# EAGLE library part RX62N (library takeyama)
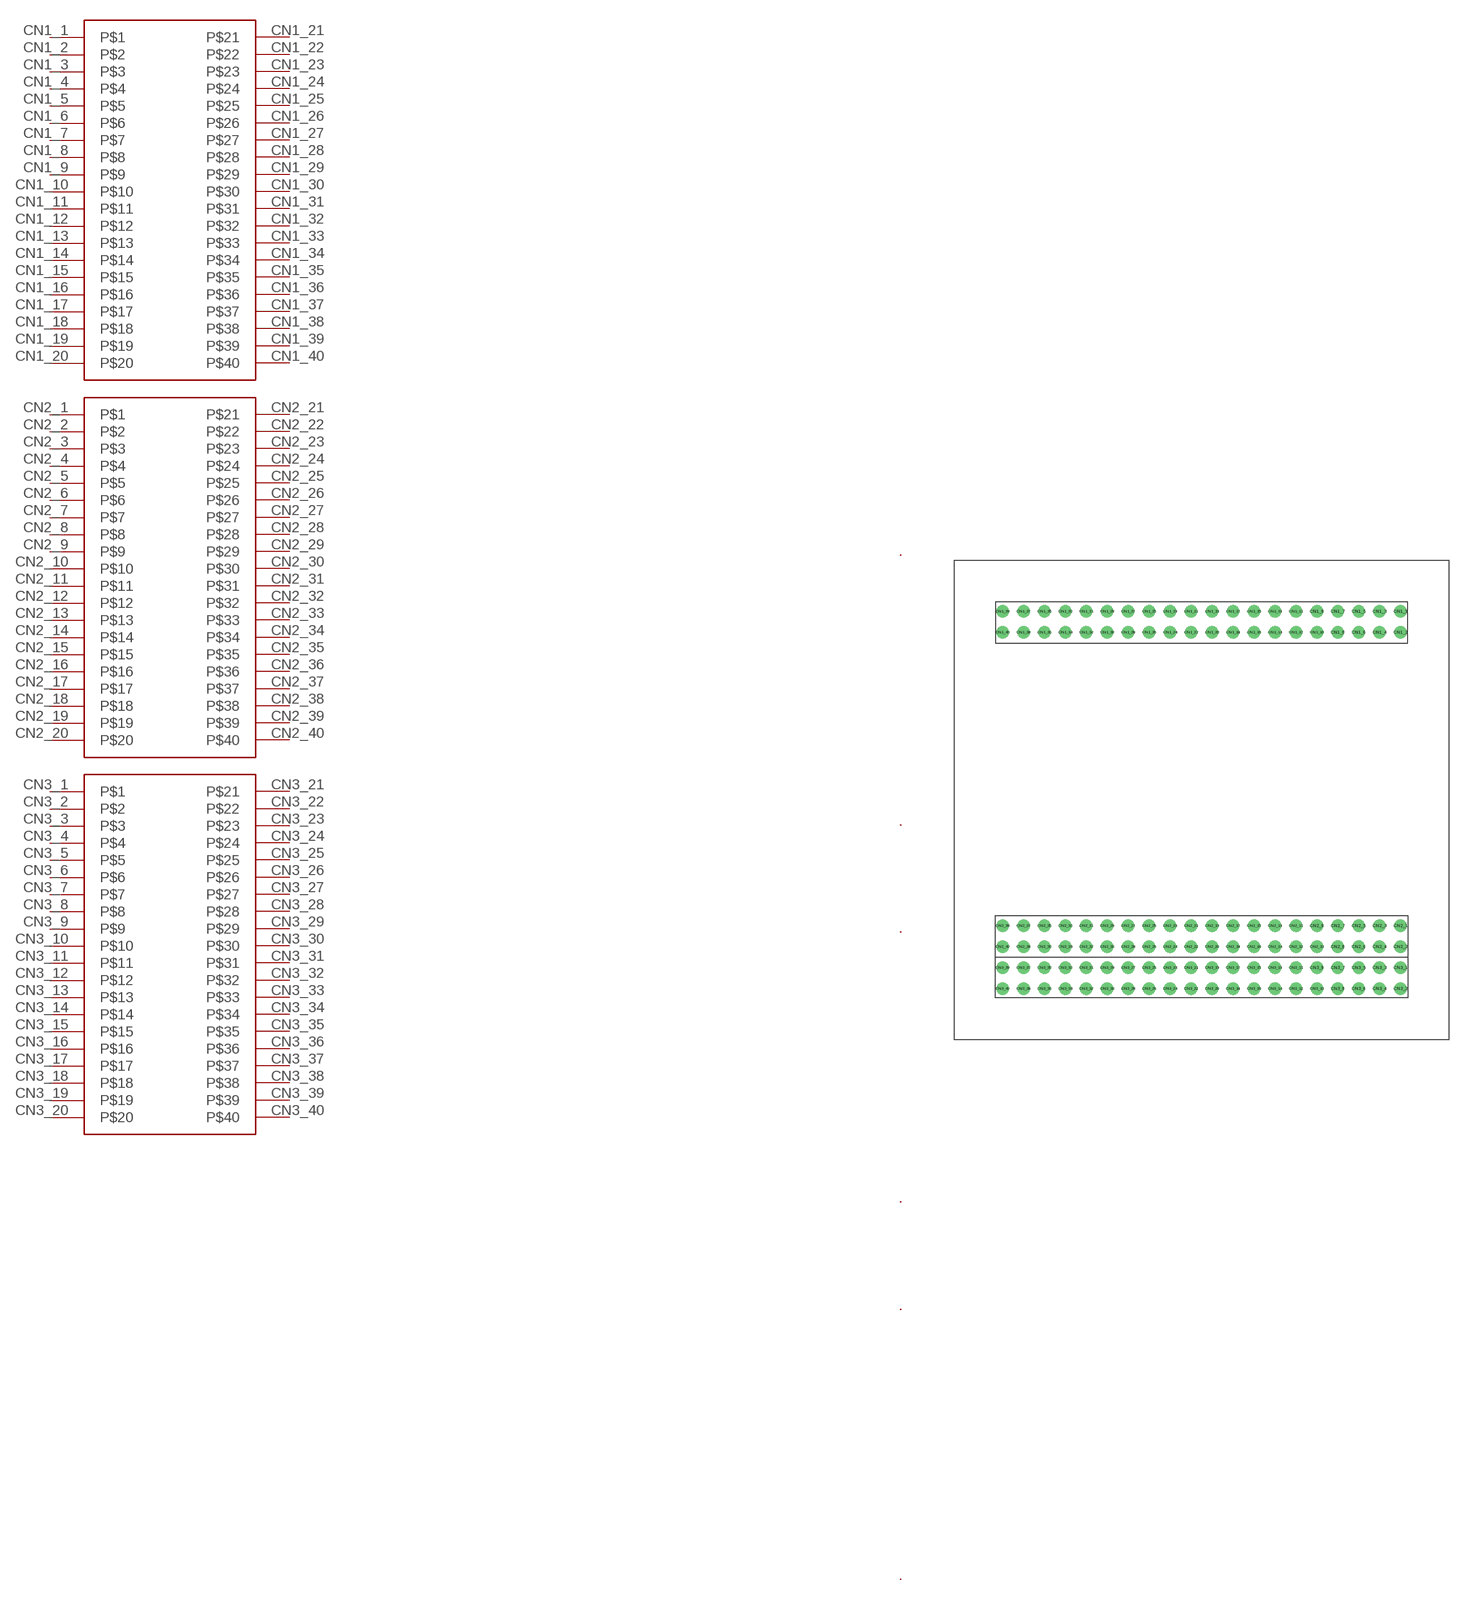
[diagram p4: symbol with the pads of RX62N; footprint RX62N]

Designator prefix -; gates CH1=RX62N CH2=RX62N CH3=RX62N

## RX62N  [RX62N]
CN1_1  CH1:P$1
CN1_2  CH1:P$2
CN1_3  CH1:P$3
CN1_4  CH1:P$4
CN1_5  CH1:P$5
CN1_6  CH1:P$6
CN1_7  CH1:P$7
CN1_8  CH1:P$8
CN1_9  CH1:P$9
CN1_10  CH1:P$10
CN1_11  CH1:P$11
CN1_12  CH1:P$12
CN1_13  CH1:P$13
CN1_14  CH1:P$14
CN1_15  CH1:P$15
CN1_16  CH1:P$16
CN1_17  CH1:P$17
CN1_18  CH1:P$18
CN1_19  CH1:P$19
CN1_20  CH1:P$20
CN1_21  CH1:P$21
CN1_22  CH1:P$22
CN1_23  CH1:P$23
CN1_24  CH1:P$24
CN1_25  CH1:P$25
CN1_26  CH1:P$26
CN1_27  CH1:P$27
CN1_28  CH1:P$28
CN1_29  CH1:P$29
CN1_30  CH1:P$30
CN1_31  CH1:P$31
CN1_32  CH1:P$32
CN1_33  CH1:P$33
CN1_34  CH1:P$34
CN1_35  CH1:P$35
CN1_36  CH1:P$36
CN1_37  CH1:P$37
CN1_38  CH1:P$38
CN1_39  CH1:P$39
CN1_40  CH1:P$40
CN2_1  CH2:P$1
CN2_2  CH2:P$2
CN2_3  CH2:P$3
CN2_4  CH2:P$4
CN2_5  CH2:P$5
CN2_6  CH2:P$6
CN2_7  CH2:P$7
CN2_8  CH2:P$8
CN2_9  CH2:P$9
CN2_10  CH2:P$10
CN2_11  CH2:P$11
CN2_12  CH2:P$12
CN2_13  CH2:P$13
CN2_14  CH2:P$14
CN2_15  CH2:P$15
CN2_16  CH2:P$16
CN2_17  CH2:P$17
CN2_18  CH2:P$18
CN2_19  CH2:P$19
CN2_20  CH2:P$20
CN2_21  CH2:P$21
CN2_22  CH2:P$22
CN2_23  CH2:P$23
CN2_24  CH2:P$24
CN2_25  CH2:P$25
CN2_26  CH2:P$26
CN2_27  CH2:P$27
CN2_28  CH2:P$28
CN2_29  CH2:P$29
CN2_30  CH2:P$30
CN2_31  CH2:P$31
CN2_32  CH2:P$32
CN2_33  CH2:P$33
CN2_34  CH2:P$34
CN2_35  CH2:P$35
CN2_36  CH2:P$36
CN2_37  CH2:P$37
CN2_38  CH2:P$38
CN2_39  CH2:P$39
CN2_40  CH2:P$40
CN3_1  CH3:P$1
CN3_2  CH3:P$2
CN3_3  CH3:P$3
CN3_4  CH3:P$4
CN3_5  CH3:P$5
CN3_6  CH3:P$6
CN3_7  CH3:P$7
CN3_8  CH3:P$8
CN3_9  CH3:P$9
CN3_10  CH3:P$10
CN3_11  CH3:P$11
CN3_12  CH3:P$12
CN3_13  CH3:P$13
CN3_14  CH3:P$14
CN3_15  CH3:P$15
CN3_16  CH3:P$16
CN3_17  CH3:P$17
CN3_18  CH3:P$18
CN3_19  CH3:P$19
CN3_20  CH3:P$20
CN3_21  CH3:P$21
CN3_22  CH3:P$22
CN3_23  CH3:P$23
CN3_24  CH3:P$24
CN3_25  CH3:P$25
CN3_26  CH3:P$26
CN3_27  CH3:P$27
CN3_28  CH3:P$28
CN3_29  CH3:P$29
CN3_30  CH3:P$30
CN3_31  CH3:P$31
CN3_32  CH3:P$32
CN3_33  CH3:P$33
CN3_34  CH3:P$34
CN3_35  CH3:P$35
CN3_36  CH3:P$36
CN3_37  CH3:P$37
CN3_38  CH3:P$38
CN3_39  CH3:P$39
CN3_40  CH3:P$40

## Footprint RX62N (pad centres in mm)
drill 1: CN1_1 24.13,22.86; CN1_2 24.13,20.32; CN1_3 21.59,22.86; CN1_4 21.59,20.32; CN1_5 19.05,22.86; CN1_6 19.05,20.32; CN1_7 16.51,22.86; CN1_8 16.51,20.32; CN1_9 13.97,22.86; CN1_10 13.97,20.32; CN1_11 11.43,22.86; CN1_12 11.43,20.32; CN1_13 8.89,22.86; CN1_14 8.89,20.32; CN1_15 6.35,22.86; CN1_16 6.35,20.32; CN1_17 3.81,22.86; CN1_18 3.81,20.32; CN1_19 1.27,22.86; CN1_20 1.27,20.32; CN1_21 -1.27,22.86; CN1_22 -1.27,20.32; CN1_23 -3.81,22.86; CN1_24 -3.81,20.32; CN1_25 -6.35,22.86; CN1_26 -6.35,20.32; CN1_27 -8.89,22.86; CN1_28 -8.89,20.32; CN1_29 -11.43,22.86; CN1_30 -11.43,20.32; CN1_31 -13.97,22.86; CN1_32 -13.97,20.32; CN1_33 -16.51,22.86; CN1_34 -16.51,20.32; CN1_35 -19.05,22.86; CN1_36 -19.05,20.32; CN1_37 -21.59,22.86; CN1_38 -21.59,20.32; CN1_39 -24.13,22.86; CN1_40 -24.13,20.32; CN2_1 24.13,-15.24; CN2_2 24.13,-17.78; CN2_3 21.59,-15.24; CN2_4 21.59,-17.78; CN2_5 19.05,-15.24; CN2_6 19.05,-17.78; CN2_7 16.51,-15.24; CN2_8 16.51,-17.78; CN2_9 13.97,-15.24; CN2_10 13.97,-17.78; CN2_11 11.43,-15.24; CN2_12 11.43,-17.78; CN2_13 8.89,-15.24; CN2_14 8.89,-17.78; CN2_15 6.35,-15.24; CN2_16 6.35,-17.78; CN2_17 3.81,-15.24; CN2_18 3.81,-17.78; CN2_19 1.27,-15.24; CN2_20 1.27,-17.78; CN2_21 -1.27,-15.24; CN2_22 -1.27,-17.78; CN2_23 -3.81,-15.24; CN2_24 -3.81,-17.78; CN2_25 -6.35,-15.24; CN2_26 -6.35,-17.78; CN2_27 -8.89,-15.24; CN2_28 -8.89,-17.78; CN2_29 -11.43,-15.24; CN2_30 -11.43,-17.78; CN2_31 -13.97,-15.24; CN2_32 -13.97,-17.78; CN2_33 -16.51,-15.24; CN2_34 -16.51,-17.78; CN2_35 -19.05,-15.24; CN2_36 -19.05,-17.78; CN2_37 -21.59,-15.24; CN2_38 -21.59,-17.78; CN2_39 -24.13,-15.24; CN2_40 -24.13,-17.78; CN3_1 24.13,-20.32; CN3_2 24.13,-22.86; CN3_3 21.59,-20.32; CN3_4 21.59,-22.86; CN3_5 19.05,-20.32; CN3_6 19.05,-22.86; CN3_7 16.51,-20.32; CN3_8 16.51,-22.86; CN3_9 13.97,-20.32; CN3_10 13.97,-22.86; CN3_11 11.43,-20.32; CN3_12 11.43,-22.86; CN3_13 8.89,-20.32; CN3_14 8.89,-22.86; CN3_15 6.35,-20.32; CN3_16 6.35,-22.86; CN3_17 3.81,-20.32; CN3_18 3.81,-22.86; CN3_19 1.27,-20.32; CN3_20 1.27,-22.86; CN3_21 -1.27,-20.32; CN3_22 -1.27,-22.86; CN3_23 -3.81,-20.32; CN3_24 -3.81,-22.86; CN3_25 -6.35,-20.32; CN3_26 -6.35,-22.86; CN3_27 -8.89,-20.32; CN3_28 -8.89,-22.86; CN3_29 -11.43,-20.32; CN3_30 -11.43,-22.86; CN3_31 -13.97,-20.32; CN3_32 -13.97,-22.86; CN3_33 -16.51,-20.32; CN3_34 -16.51,-22.86; CN3_35 -19.05,-20.32; CN3_36 -19.05,-22.86; CN3_37 -21.59,-20.32; CN3_38 -21.59,-22.86; CN3_39 -24.13,-20.32; CN3_40 -24.13,-22.86